# Altium integrated library Linear Technology PMIC-Switching Reg LTC1174-LTC3901.IntLib: 2647 symbols (part 76 of 310)
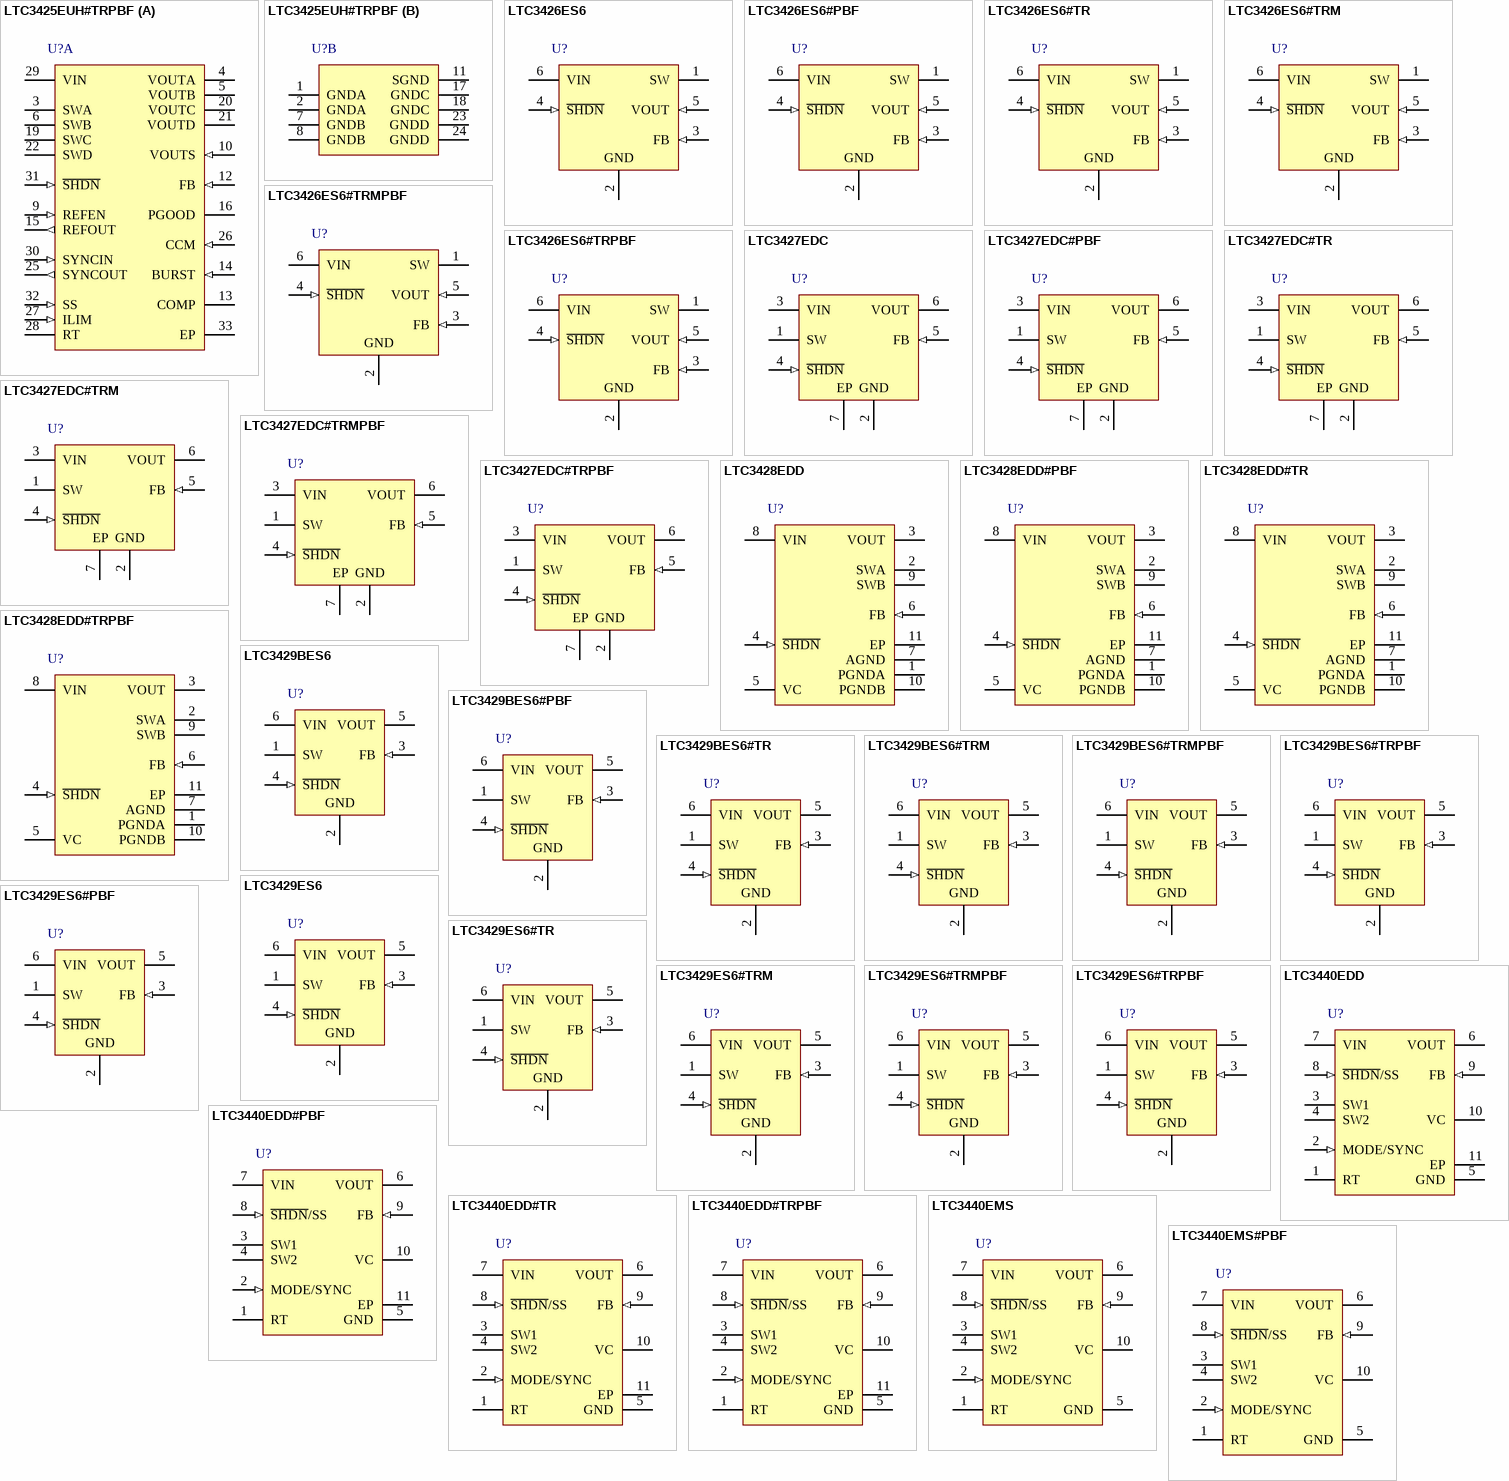
[diagram p159: symbols LTC3425EUH#TRPBF to LTC3440EMS#PBF]

## LTC3440EMS#PBF
designator U?
Micropower Synchronous Buck-Boost DC/DC Converter, 10-pin SOP (MS-10), -40 to 85 degC, Pb-Free; Manufacturer: Linear Technology; PartNumber: LTC3440EMS#PBF; Number of Outputs: 1; PackageReference: MS-10; PackageDescription: 10-Pin Plastic MSOP, Body 3 x 3 mm, Pitch 0.5 mm; Supplier 1: Digi-Key; Supplier Part Number 1: LTC3440EMS#PBF-ND; RoHS: TRUE
footprint LT-MS-10_N (SOP, 10-Leads, Body 3.1x3.1mm, Pitch 0.5mm, IPC Medium Density)
footprint LT-MS-10_L (SOP, 10-Leads, Body 3.1x3.1mm, Pitch 0.5mm, IPC High Density)
footprint LT-MS-10_M (SOP, 10-Leads, Body 3.1x3.1mm, Pitch 0.5mm, IPC Low Density)
pins: 1 RT "Timing Resistor to Program the Oscillator Frequency. The programming frequency range is 300kHz to 2MHz.", 2 MODE/SYNC (in) "MODE/SYNC = External CLK : Synchronization of the internal oscillator. A clock frequency of twice the desired switching frequency and with a pulse width between 100ns and 2us is applied. The oscillator free running frequency (See Datasheet)", 3 SW1 "Switch Pin Where the Internal Switches A and B are Connected. Connect inductor from SW1 to SW2. An optional Schottky diode can be connected from SW1 to ground. Minimize trace length to keep EMI down.", 4 SW2 "Switch Pin Where the Internal Switches C and D are Connected. For applications with output volt-ages over 4.3V, a Schottky diode is required from SW2 to VOUT to ensure the SW pin does not exhibit excess voltage.", 5 GND (power) "Signal and Power Ground for the IC.", 6 VOUT (power) "Output of the Synchronous Rectifier. A filtercapacitor is placed from VOUT to GND.", 7 VIN (power) "Input Supply Pin. Internal VCC for the IC. A ceramic bypass capacitor as close to the VIN pin and GND (Pin 5) is required.", 8 ~{SHDN}/SS (in) "Combined Soft-Start and Shutdown. Grounding this pin shuts down the IC. Tie to >1.5V to enable the IC and > 2.5V to ensure the error amp is not clamped from soft-start. An RC from the shutdown command signal to this pin will (See Datasheet)", 9 FB (in) "Feedback Pin. Connect resistor divider tap here. The output voltage can be adjusted from 2.5V to 5.5V. The feedback reference voltage is typically 1.22V.", 10 VC "Error Amp Output. A frequency compensation network is connected from this pin to the FB pin to compensate the loop. See the section “Compensating the Feedback Loop” for guidelines."

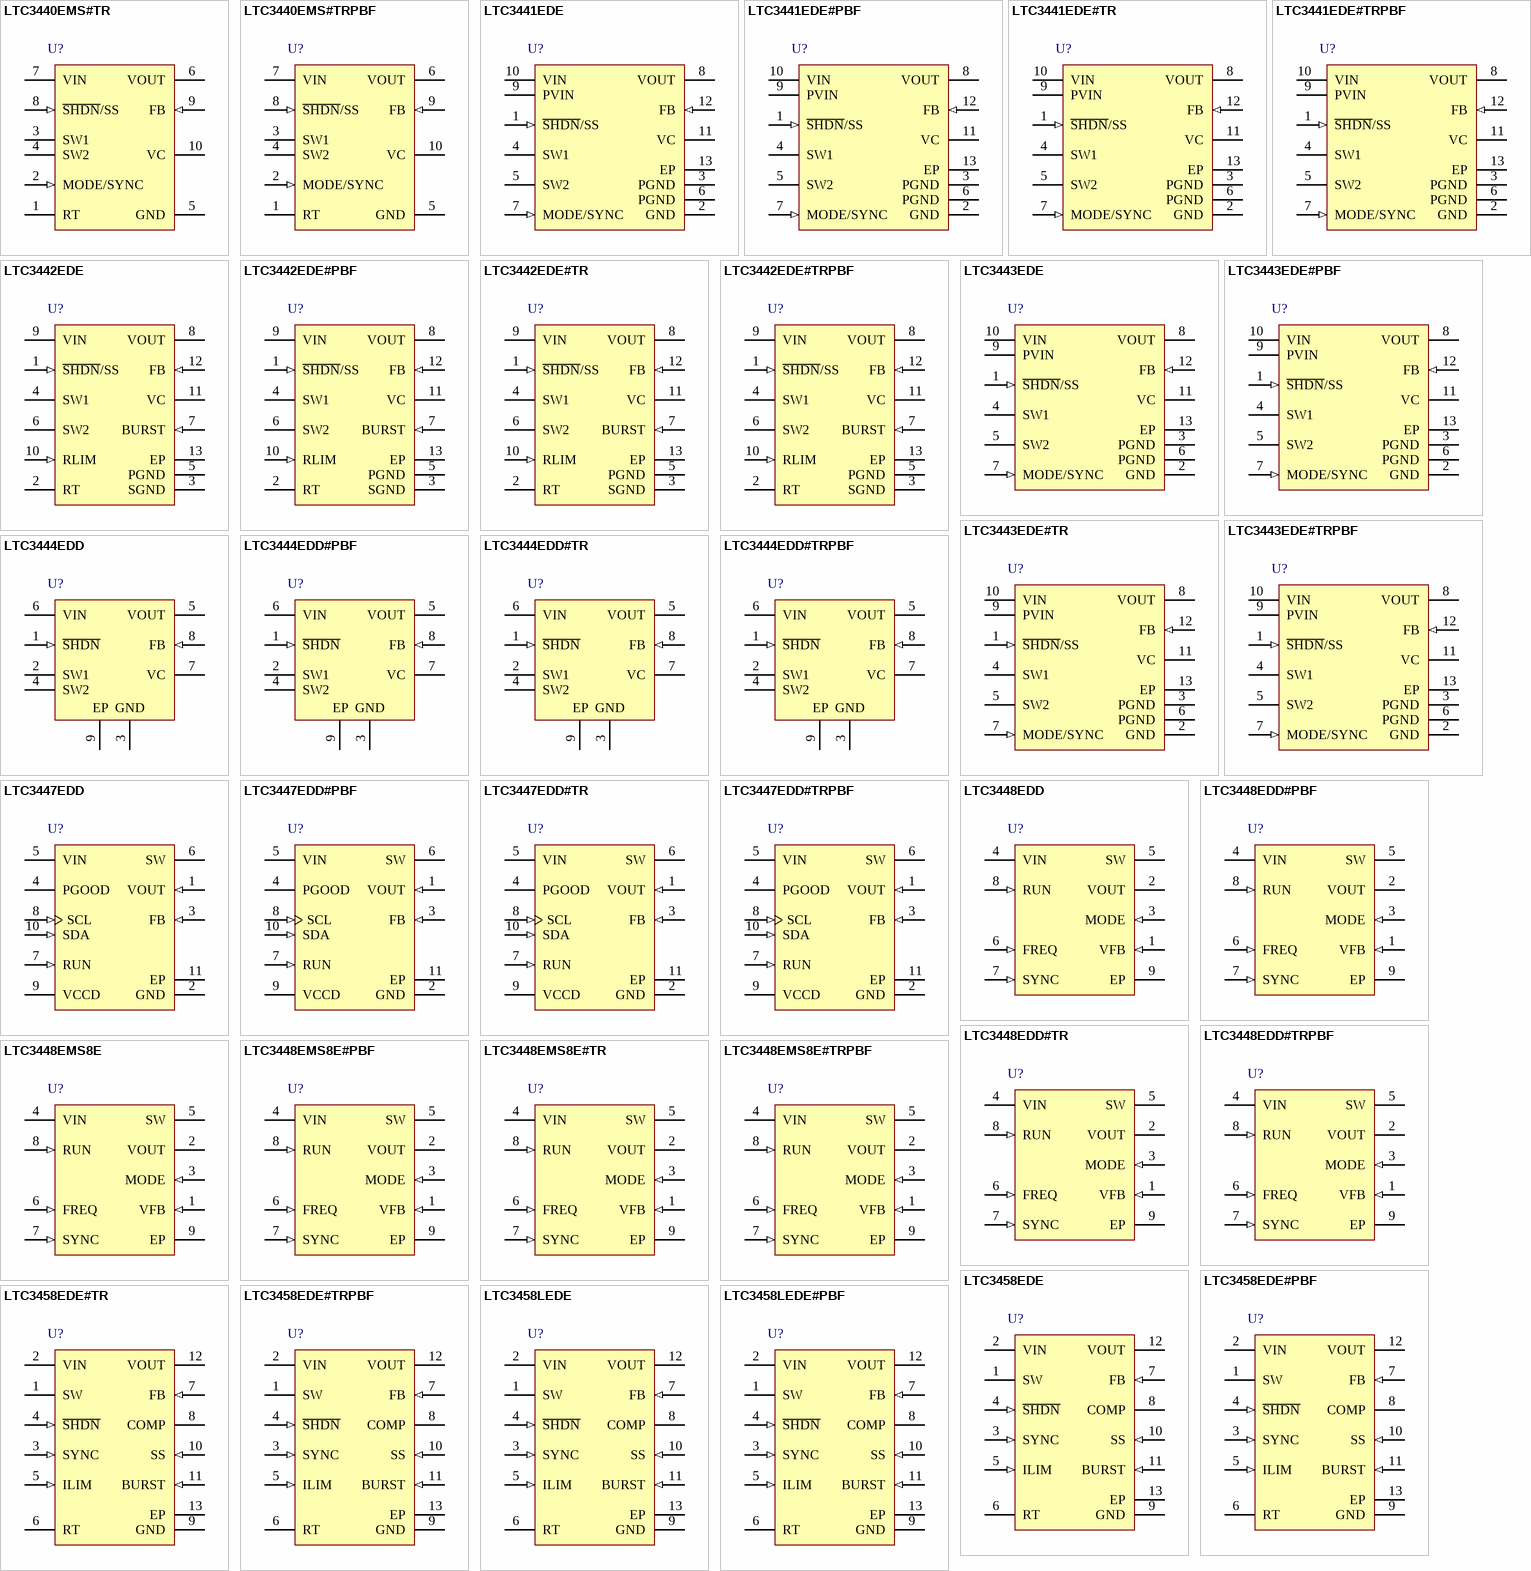
[diagram p27: symbols LTC3440EMS#TR to LTC3458LEDE#PBF]

## LTC3440EMS#TR
designator U?
Micropower Synchronous Buck-Boost DC/DC Converter, 10-pin SOP (MS-10), -40 to 85 degC, Tape and Reel; Manufacturer: Linear Technology; PartNumber: LTC3440EMS#TR; Number of Outputs: 1; PackageReference: MS-10; PackageDescription: 10-Pin Plastic MSOP, Body 3 x 3 mm, Pitch 0.5 mm; Supplier 1: Digi-Key; Supplier Part Number 1: LTC3440EMSTR-ND; RoHS: FALSE
footprint LT-MS-10_N (SOP, 10-Leads, Body 3.1x3.1mm, Pitch 0.5mm, IPC Medium Density)
footprint LT-MS-10_L (SOP, 10-Leads, Body 3.1x3.1mm, Pitch 0.5mm, IPC High Density)
footprint LT-MS-10_M (SOP, 10-Leads, Body 3.1x3.1mm, Pitch 0.5mm, IPC Low Density)
pins: 1 RT "Timing Resistor to Program the Oscillator Frequency. The programming frequency range is 300kHz to 2MHz.", 2 MODE/SYNC (in) "MODE/SYNC = External CLK : Synchronization of the internal oscillator. A clock frequency of twice the desired switching frequency and with a pulse width between 100ns and 2us is applied. The oscillator free running frequency (See Datasheet)", 3 SW1 "Switch Pin Where the Internal Switches A and B are Connected. Connect inductor from SW1 to SW2. An optional Schottky diode can be connected from SW1 to ground. Minimize trace length to keep EMI down.", 4 SW2 "Switch Pin Where the Internal Switches C and D are Connected. For applications with output volt-ages over 4.3V, a Schottky diode is required from SW2 to VOUT to ensure the SW pin does not exhibit excess voltage.", 5 GND (power) "Signal and Power Ground for the IC.", 6 VOUT (power) "Output of the Synchronous Rectifier. A filtercapacitor is placed from VOUT to GND.", 7 VIN (power) "Input Supply Pin. Internal VCC for the IC. A ceramic bypass capacitor as close to the VIN pin and GND (Pin 5) is required.", 8 ~{SHDN}/SS (in) "Combined Soft-Start and Shutdown. Grounding this pin shuts down the IC. Tie to >1.5V to enable the IC and > 2.5V to ensure the error amp is not clamped from soft-start. An RC from the shutdown command signal to this pin will (See Datasheet)", 9 FB (in) "Feedback Pin. Connect resistor divider tap here. The output voltage can be adjusted from 2.5V to 5.5V. The feedback reference voltage is typically 1.22V.", 10 VC "Error Amp Output. A frequency compensation network is connected from this pin to the FB pin to compensate the loop. See the section “Compensating the Feedback Loop” for guidelines."

## LTC3440EMS#TRPBF
designator U?
Micropower Synchronous Buck-Boost DC/DC Converter, 10-pin SOP (MS-10), -40 to 85 degC, Pb-Free, Tape and Reel; Manufacturer: Linear Technology; PartNumber: LTC3440EMS#TRPBF; Number of Outputs: 1; PackageReference: MS-10; PackageDescription: 10-Pin Plastic MSOP, Body 3 x 3 mm, Pitch 0.5 mm; Supplier 1: Digi-Key; Supplier Part Number 1: LTC3440EMS#TRPBF-ND; RoHS: TRUE
footprint LT-MS-10_N (SOP, 10-Leads, Body 3.1x3.1mm, Pitch 0.5mm, IPC Medium Density)
footprint LT-MS-10_L (SOP, 10-Leads, Body 3.1x3.1mm, Pitch 0.5mm, IPC High Density)
footprint LT-MS-10_M (SOP, 10-Leads, Body 3.1x3.1mm, Pitch 0.5mm, IPC Low Density)
pins: 1 RT "Timing Resistor to Program the Oscillator Frequency. The programming frequency range is 300kHz to 2MHz.", 2 MODE/SYNC (in) "MODE/SYNC = External CLK : Synchronization of the internal oscillator. A clock frequency of twice the desired switching frequency and with a pulse width between 100ns and 2us is applied. The oscillator free running frequency (See Datasheet)", 3 SW1 "Switch Pin Where the Internal Switches A and B are Connected. Connect inductor from SW1 to SW2. An optional Schottky diode can be connected from SW1 to ground. Minimize trace length to keep EMI down.", 4 SW2 "Switch Pin Where the Internal Switches C and D are Connected. For applications with output volt-ages over 4.3V, a Schottky diode is required from SW2 to VOUT to ensure the SW pin does not exhibit excess voltage.", 5 GND (power) "Signal and Power Ground for the IC.", 6 VOUT (power) "Output of the Synchronous Rectifier. A filtercapacitor is placed from VOUT to GND.", 7 VIN (power) "Input Supply Pin. Internal VCC for the IC. A ceramic bypass capacitor as close to the VIN pin and GND (Pin 5) is required.", 8 ~{SHDN}/SS (in) "Combined Soft-Start and Shutdown. Grounding this pin shuts down the IC. Tie to >1.5V to enable the IC and > 2.5V to ensure the error amp is not clamped from soft-start. An RC from the shutdown command signal to this pin will (See Datasheet)", 9 FB (in) "Feedback Pin. Connect resistor divider tap here. The output voltage can be adjusted from 2.5V to 5.5V. The feedback reference voltage is typically 1.22V.", 10 VC "Error Amp Output. A frequency compensation network is connected from this pin to the FB pin to compensate the loop. See the section “Compensating the Feedback Loop” for guidelines."

## LTC3441EDE
designator U?
High Current Micropower Synchronous Buck-Boost DC/DC Converter, 12-pin SON (DE-UE-12), -40 to 85 degC; Manufacturer: Linear Technology; PartNumber: LTC3441EDE; Number of Outputs: 1; PackageReference: DE-UE-12; PackageDescription: 12-Pin Plastic DFN, Body 4 x 3 mm, Pitch 0.5 mm; Supplier 1: Digi-Key; Supplier Part Number 1: LTC3441EDE-ND; RoHS: FALSE; Code_JEDEC: MO-229
footprint LT-DE-UE-12_V (SON, 12-Leads, Body 4x3mm, Pitch 0.5mm, Thermal Pad 3.3x1.7mm)
pins: 1 ~{SHDN}/SS (in) "Combined Soft-Start and Shutdown. Applied voltage < 0.4V shuts down the IC. Tie to >1.4V to enable the IC and >2.4V to ensure the error amp is not clamped from soft-start. An RC from the shutdown command signal to this pin (See Datasheet)", 2 GND (power) "Signal Ground for the IC.", 3 PGND (power) "Power Ground for the Internal NMOS Power Switches", 4 SW1 "Switch pin where the internal switches A and B are connected. Connect inductor from SW1 to SW2. An optional Schottky diode can be connected from this SW1 to ground. Minimize trace length to keep EMI down.", 5 SW2 "Switch pin where the internal switches C and D are connected. An optional Schottky diode can be connected from SW2 to VOUT (it is required where VOUT > 4.3V). Minimize trace length to keep EMI down.", 6 PGND (power) "Power Ground for the Internal NMOS Power Switches", 7 MODE/SYNC (in) "Burst Mode Select and Oscillator Synchronization.", 8 VOUT (power) "Output of the Synchronous Rectifier. A filter capacitor is placed from VOUT to GND. A ceramic bypass capacitor is recommended as close to the VOUT and GND pins as possible.", 9 PVIN (power) "Power VIN Supply Pin. A 10uF ceramic capacitor is recommended as close to the PVIN and PGND pins as possible", 10 VIN (power) "Input Supply Pin. Internal VCC for the IC.", 11 VC "Error Amp Output. A frequency compensation network is connected from this pin to the FB pin to compensate the loop. See the section “Compensating the Feedback Loop?for guidelines.", 12 FB (in) "Feedback Pin. Connect resistor divider tap here. The output voltage can be adjusted from 2.4V to 5.25V. The feedback reference voltage is typically 1.22V.", 13 EP (power) "Power Ground for the Internal NMOS Power Switches"

## LTC3441EDE#PBF
designator U?
High Current Micropower Synchronous Buck-Boost DC/DC Converter, 12-pin SON (DE-UE-12), -40 to 85 degC, Pb-Free; Manufacturer: Linear Technology; PartNumber: LTC3441EDE#PBF; Number of Outputs: 1; PackageReference: DE-UE-12; PackageDescription: 12-Pin Plastic DFN, Body 4 x 3 mm, Pitch 0.5 mm; Supplier 1: Digi-Key; Supplier Part Number 1: LTC3441EDE#PBF-ND; RoHS: TRUE; Code_JEDEC: MO-229
footprint LT-DE-UE-12_V (SON, 12-Leads, Body 4x3mm, Pitch 0.5mm, Thermal Pad 3.3x1.7mm)
pins: 1 ~{SHDN}/SS (in) "Combined Soft-Start and Shutdown. Applied voltage < 0.4V shuts down the IC. Tie to >1.4V to enable the IC and >2.4V to ensure the error amp is not clamped from soft-start. An RC from the shutdown command signal to this pin (See Datasheet)", 2 GND (power) "Signal Ground for the IC.", 3 PGND (power) "Power Ground for the Internal NMOS Power Switches", 4 SW1 "Switch pin where the internal switches A and B are connected. Connect inductor from SW1 to SW2. An optional Schottky diode can be connected from this SW1 to ground. Minimize trace length to keep EMI down.", 5 SW2 "Switch pin where the internal switches C and D are connected. An optional Schottky diode can be connected from SW2 to VOUT (it is required where VOUT > 4.3V). Minimize trace length to keep EMI down.", 6 PGND (power) "Power Ground for the Internal NMOS Power Switches", 7 MODE/SYNC (in) "Burst Mode Select and Oscillator Synchronization.", 8 VOUT (power) "Output of the Synchronous Rectifier. A filter capacitor is placed from VOUT to GND. A ceramic bypass capacitor is recommended as close to the VOUT and GND pins as possible.", 9 PVIN (power) "Power VIN Supply Pin. A 10uF ceramic capacitor is recommended as close to the PVIN and PGND pins as possible", 10 VIN (power) "Input Supply Pin. Internal VCC for the IC.", 11 VC "Error Amp Output. A frequency compensation network is connected from this pin to the FB pin to compensate the loop. See the section “Compensating the Feedback Loop?for guidelines.", 12 FB (in) "Feedback Pin. Connect resistor divider tap here. The output voltage can be adjusted from 2.4V to 5.25V. The feedback reference voltage is typically 1.22V.", 13 EP (power) "Power Ground for the Internal NMOS Power Switches"

## LTC3441EDE#TR
designator U?
High Current Micropower Synchronous Buck-Boost DC/DC Converter, 12-pin SON (DE-UE-12), -40 to 85 degC, Tape and Reel; Manufacturer: Linear Technology; PartNumber: LTC3441EDE#TR; Number of Outputs: 1; PackageReference: DE-UE-12; PackageDescription: 12-Pin Plastic DFN, Body 4 x 3 mm, Pitch 0.5 mm; Supplier 1: Digi-Key; Supplier Part Number 1: LTC3441EDE#TR-ND; RoHS: FALSE; Code_JEDEC: MO-229
footprint LT-DE-UE-12_V (SON, 12-Leads, Body 4x3mm, Pitch 0.5mm, Thermal Pad 3.3x1.7mm)
pins: 1 ~{SHDN}/SS (in) "Combined Soft-Start and Shutdown. Applied voltage < 0.4V shuts down the IC. Tie to >1.4V to enable the IC and >2.4V to ensure the error amp is not clamped from soft-start. An RC from the shutdown command signal to this pin (See Datasheet)", 2 GND (power) "Signal Ground for the IC.", 3 PGND (power) "Power Ground for the Internal NMOS Power Switches", 4 SW1 "Switch pin where the internal switches A and B are connected. Connect inductor from SW1 to SW2. An optional Schottky diode can be connected from this SW1 to ground. Minimize trace length to keep EMI down.", 5 SW2 "Switch pin where the internal switches C and D are connected. An optional Schottky diode can be connected from SW2 to VOUT (it is required where VOUT > 4.3V). Minimize trace length to keep EMI down.", 6 PGND (power) "Power Ground for the Internal NMOS Power Switches", 7 MODE/SYNC (in) "Burst Mode Select and Oscillator Synchronization.", 8 VOUT (power) "Output of the Synchronous Rectifier. A filter capacitor is placed from VOUT to GND. A ceramic bypass capacitor is recommended as close to the VOUT and GND pins as possible.", 9 PVIN (power) "Power VIN Supply Pin. A 10uF ceramic capacitor is recommended as close to the PVIN and PGND pins as possible", 10 VIN (power) "Input Supply Pin. Internal VCC for the IC.", 11 VC "Error Amp Output. A frequency compensation network is connected from this pin to the FB pin to compensate the loop. See the section “Compensating the Feedback Loop?for guidelines.", 12 FB (in) "Feedback Pin. Connect resistor divider tap here. The output voltage can be adjusted from 2.4V to 5.25V. The feedback reference voltage is typically 1.22V.", 13 EP (power) "Power Ground for the Internal NMOS Power Switches"

## LTC3441EDE#TRPBF
designator U?
High Current Micropower Synchronous Buck-Boost DC/DC Converter, 12-pin SON (DE-UE-12), -40 to 85 degC, Pb-Free, Tape and Reel; Manufacturer: Linear Technology; PartNumber: LTC3441EDE#TRPBF; Number of Outputs: 1; PackageReference: DE-UE-12; PackageDescription: 12-Pin Plastic DFN, Body 4 x 3 mm, Pitch 0.5 mm; Supplier 1: Digi-Key; Supplier Part Number 1: LTC3441EDE#TRPBF-ND; RoHS: TRUE; Code_JEDEC: MO-229
footprint LT-DE-UE-12_V (SON, 12-Leads, Body 4x3mm, Pitch 0.5mm, Thermal Pad 3.3x1.7mm)
pins: 1 ~{SHDN}/SS (in) "Combined Soft-Start and Shutdown. Applied voltage < 0.4V shuts down the IC. Tie to >1.4V to enable the IC and >2.4V to ensure the error amp is not clamped from soft-start. An RC from the shutdown command signal to this pin (See Datasheet)", 2 GND (power) "Signal Ground for the IC.", 3 PGND (power) "Power Ground for the Internal NMOS Power Switches", 4 SW1 "Switch pin where the internal switches A and B are connected. Connect inductor from SW1 to SW2. An optional Schottky diode can be connected from this SW1 to ground. Minimize trace length to keep EMI down.", 5 SW2 "Switch pin where the internal switches C and D are connected. An optional Schottky diode can be connected from SW2 to VOUT (it is required where VOUT > 4.3V). Minimize trace length to keep EMI down.", 6 PGND (power) "Power Ground for the Internal NMOS Power Switches", 7 MODE/SYNC (in) "Burst Mode Select and Oscillator Synchronization.", 8 VOUT (power) "Output of the Synchronous Rectifier. A filter capacitor is placed from VOUT to GND. A ceramic bypass capacitor is recommended as close to the VOUT and GND pins as possible.", 9 PVIN (power) "Power VIN Supply Pin. A 10uF ceramic capacitor is recommended as close to the PVIN and PGND pins as possible", 10 VIN (power) "Input Supply Pin. Internal VCC for the IC.", 11 VC "Error Amp Output. A frequency compensation network is connected from this pin to the FB pin to compensate the loop. See the section “Compensating the Feedback Loop?for guidelines.", 12 FB (in) "Feedback Pin. Connect resistor divider tap here. The output voltage can be adjusted from 2.4V to 5.25V. The feedback reference voltage is typically 1.22V.", 13 EP (power) "Power Ground for the Internal NMOS Power Switches"

## LTC3442EDE
designator U?
Micropower Synchronous Buck-Boost DC/DC Converter with Automatic Burst Mode Operation, 12-pin SON (DE-UE-12), -40 to 85 degC; Manufacturer: Linear Technology; PartNumber: LTC3442EDE; Number of Outputs: 1; PackageReference: DE-UE-12; PackageDescription: 12-Pin Plastic DFN, Body 4 x 3 mm, Pitch 0.5 mm; RoHS: FALSE; Code_JEDEC: MO-229
footprint LT-DE-UE-12_V (SON, 12-Leads, Body 4x3mm, Pitch 0.5mm, Thermal Pad 3.3x1.7mm)
pins: 1 ~{SHDN}/SS (in) "Combined Soft-Start and Shutdown. Applied voltage < 0.4V shuts down the IC. Tie to >1.4V to enable the IC and >2.4V to ensure the error amp is not clamped from soft-start. An RC from the shutdown command signal to this pin (See Datasheet)", 2 RT "Programs the Frequency of the Internal Oscillator. Place a resistor from this pin to ground. See the Applications Information section for component value selection.", 3 SGND (power) "Signal Ground for the IC.", 4 SW1 "Switch Pin Where Internal Switches A and B Are Connected. Connect inductor from SW1 to SW2. An optional Schottky diode can be connected from SW1 to ground for a moderate efficiency improvement. Minimize trace length to (See Datasheet)", 5 PGND (power) "Power Ground for the Internal NMOS Power Switches. The exposed pad must be soldered to PCB ground to provide both electrical contact and a good thermal contact to the PCB.", 6 SW2 "Switch Pin Where Internal Switches C and D Are Connected. An optional Schottky diode can be connected from SW2 to VOUT for a moderate efficiency improvement. Minimize trace length to reduce EMI.", 7 BURST (in) "Used to Set the Automatic Burst Mode Operation Threshold. Place a resistor and capacitor in parallel from this pin to ground. See the Applications Information section for component value selection. For manual control, ground (See Datasheet)", 8 VOUT (power) "Output of the Synchronous Rectifier. A filter capacitor is placed from VOUT to GND. A ceramic bypass capacitor is recommended as close to the VOUT and GND pins as possible.", 9 VIN (power) "Input Supply Pin. Internal VCC for the IC. A 10uF ceramic capacitor is recommended as close to VIN and SGND as possible.", 10 RLIM (in) "Sets the Average Input Current Limit Threshold. Place a resistor and capacitor in parallel from this pin to ground. See the Applications Information section for component value selection.", 11 VC "Error Amp Output. A frequency compensation network is connected from this pin to FB to compensate the loop. During Burst Mode operation, VC is internally connected to a hold circuit.", 12 FB (in) "Feedback Pin. Connect resistor divider tap here. The output voltage can be adjusted from 2.4V to 5.25V. The feedback reference voltage is typically 1.22V.", 13 EP (power) "Power Ground for the Internal NMOS Power Switches. The exposed pad must be soldered to PCB ground to provide both electrical contact and a good thermal contact to the PCB."

## LTC3442EDE#PBF
designator U?
Micropower Synchronous Buck-Boost DC/DC Converter with Automatic Burst Mode Operation, 12-pin SON (DE-UE-12), -40 to 85 degC, Pb-Free; Manufacturer: Linear Technology; PartNumber: LTC3442EDE#PBF; Number of Outputs: 1; PackageReference: DE-UE-12; PackageDescription: 12-Pin Plastic DFN, Body 4 x 3 mm, Pitch 0.5 mm; Supplier 1: Digi-Key; Supplier Part Number 1: LTC3442EDE#PBF-ND; RoHS: TRUE; Code_JEDEC: MO-229
footprint LT-DE-UE-12_V (SON, 12-Leads, Body 4x3mm, Pitch 0.5mm, Thermal Pad 3.3x1.7mm)
pins: 1 ~{SHDN}/SS (in) "Combined Soft-Start and Shutdown. Applied voltage < 0.4V shuts down the IC. Tie to >1.4V to enable the IC and >2.4V to ensure the error amp is not clamped from soft-start. An RC from the shutdown command signal to this pin (See Datasheet)", 2 RT "Programs the Frequency of the Internal Oscillator. Place a resistor from this pin to ground. See the Applications Information section for component value selection.", 3 SGND (power) "Signal Ground for the IC.", 4 SW1 "Switch Pin Where Internal Switches A and B Are Connected. Connect inductor from SW1 to SW2. An optional Schottky diode can be connected from SW1 to ground for a moderate efficiency improvement. Minimize trace length to (See Datasheet)", 5 PGND (power) "Power Ground for the Internal NMOS Power Switches. The exposed pad must be soldered to PCB ground to provide both electrical contact and a good thermal contact to the PCB.", 6 SW2 "Switch Pin Where Internal Switches C and D Are Connected. An optional Schottky diode can be connected from SW2 to VOUT for a moderate efficiency improvement. Minimize trace length to reduce EMI.", 7 BURST (in) "Used to Set the Automatic Burst Mode Operation Threshold. Place a resistor and capacitor in parallel from this pin to ground. See the Applications Information section for component value selection. For manual control, ground (See Datasheet)", 8 VOUT (power) "Output of the Synchronous Rectifier. A filter capacitor is placed from VOUT to GND. A ceramic bypass capacitor is recommended as close to the VOUT and GND pins as possible.", 9 VIN (power) "Input Supply Pin. Internal VCC for the IC. A 10uF ceramic capacitor is recommended as close to VIN and SGND as possible.", 10 RLIM (in) "Sets the Average Input Current Limit Threshold. Place a resistor and capacitor in parallel from this pin to ground. See the Applications Information section for component value selection.", 11 VC "Error Amp Output. A frequency compensation network is connected from this pin to FB to compensate the loop. During Burst Mode operation, VC is internally connected to a hold circuit.", 12 FB (in) "Feedback Pin. Connect resistor divider tap here. The output voltage can be adjusted from 2.4V to 5.25V. The feedback reference voltage is typically 1.22V.", 13 EP (power) "Power Ground for the Internal NMOS Power Switches. The exposed pad must be soldered to PCB ground to provide both electrical contact and a good thermal contact to the PCB."

## LTC3442EDE#TR
designator U?
Micropower Synchronous Buck-Boost DC/DC Converter with Automatic Burst Mode Operation, 12-pin SON (DE-UE-12), -40 to 85 degC, Tape and Reel; Manufacturer: Linear Technology; PartNumber: LTC3442EDE#TR; Number of Outputs: 1; PackageReference: DE-UE-12; PackageDescription: 12-Pin Plastic DFN, Body 4 x 3 mm, Pitch 0.5 mm; RoHS: FALSE; Code_JEDEC: MO-229
footprint LT-DE-UE-12_V (SON, 12-Leads, Body 4x3mm, Pitch 0.5mm, Thermal Pad 3.3x1.7mm)
pins: 1 ~{SHDN}/SS (in) "Combined Soft-Start and Shutdown. Applied voltage < 0.4V shuts down the IC. Tie to >1.4V to enable the IC and >2.4V to ensure the error amp is not clamped from soft-start. An RC from the shutdown command signal to this pin (See Datasheet)", 2 RT "Programs the Frequency of the Internal Oscillator. Place a resistor from this pin to ground. See the Applications Information section for component value selection.", 3 SGND (power) "Signal Ground for the IC.", 4 SW1 "Switch Pin Where Internal Switches A and B Are Connected. Connect inductor from SW1 to SW2. An optional Schottky diode can be connected from SW1 to ground for a moderate efficiency improvement. Minimize trace length to (See Datasheet)", 5 PGND (power) "Power Ground for the Internal NMOS Power Switches. The exposed pad must be soldered to PCB ground to provide both electrical contact and a good thermal contact to the PCB.", 6 SW2 "Switch Pin Where Internal Switches C and D Are Connected. An optional Schottky diode can be connected from SW2 to VOUT for a moderate efficiency improvement. Minimize trace length to reduce EMI.", 7 BURST (in) "Used to Set the Automatic Burst Mode Operation Threshold. Place a resistor and capacitor in parallel from this pin to ground. See the Applications Information section for component value selection. For manual control, ground (See Datasheet)", 8 VOUT (power) "Output of the Synchronous Rectifier. A filter capacitor is placed from VOUT to GND. A ceramic bypass capacitor is recommended as close to the VOUT and GND pins as possible.", 9 VIN (power) "Input Supply Pin. Internal VCC for the IC. A 10uF ceramic capacitor is recommended as close to VIN and SGND as possible.", 10 RLIM (in) "Sets the Average Input Current Limit Threshold. Place a resistor and capacitor in parallel from this pin to ground. See the Applications Information section for component value selection.", 11 VC "Error Amp Output. A frequency compensation network is connected from this pin to FB to compensate the loop. During Burst Mode operation, VC is internally connected to a hold circuit.", 12 FB (in) "Feedback Pin. Connect resistor divider tap here. The output voltage can be adjusted from 2.4V to 5.25V. The feedback reference voltage is typically 1.22V.", 13 EP (power) "Power Ground for the Internal NMOS Power Switches. The exposed pad must be soldered to PCB ground to provide both electrical contact and a good thermal contact to the PCB."

## LTC3442EDE#TRPBF
designator U?
Micropower Synchronous Buck-Boost DC/DC Converter with Automatic Burst Mode Operation, 12-pin SON (DE-UE-12), -40 to 85 degC, Pb-Free, Tape and Reel; Manufacturer: Linear Technology; PartNumber: LTC3442EDE#TRPBF; Number of Outputs: 1; PackageReference: DE-UE-12; PackageDescription: 12-Pin Plastic DFN, Body 4 x 3 mm, Pitch 0.5 mm; Supplier 1: Digi-Key; Supplier Part Number 1: LTC3442EDE#TRPBF-ND; RoHS: TRUE; Code_JEDEC: MO-229
footprint LT-DE-UE-12_V (SON, 12-Leads, Body 4x3mm, Pitch 0.5mm, Thermal Pad 3.3x1.7mm)
pins: 1 ~{SHDN}/SS (in) "Combined Soft-Start and Shutdown. Applied voltage < 0.4V shuts down the IC. Tie to >1.4V to enable the IC and >2.4V to ensure the error amp is not clamped from soft-start. An RC from the shutdown command signal to this pin (See Datasheet)", 2 RT "Programs the Frequency of the Internal Oscillator. Place a resistor from this pin to ground. See the Applications Information section for component value selection.", 3 SGND (power) "Signal Ground for the IC.", 4 SW1 "Switch Pin Where Internal Switches A and B Are Connected. Connect inductor from SW1 to SW2. An optional Schottky diode can be connected from SW1 to ground for a moderate efficiency improvement. Minimize trace length to (See Datasheet)", 5 PGND (power) "Power Ground for the Internal NMOS Power Switches. The exposed pad must be soldered to PCB ground to provide both electrical contact and a good thermal contact to the PCB.", 6 SW2 "Switch Pin Where Internal Switches C and D Are Connected. An optional Schottky diode can be connected from SW2 to VOUT for a moderate efficiency improvement. Minimize trace length to reduce EMI.", 7 BURST (in) "Used to Set the Automatic Burst Mode Operation Threshold. Place a resistor and capacitor in parallel from this pin to ground. See the Applications Information section for component value selection. For manual control, ground (See Datasheet)", 8 VOUT (power) "Output of the Synchronous Rectifier. A filter capacitor is placed from VOUT to GND. A ceramic bypass capacitor is recommended as close to the VOUT and GND pins as possible.", 9 VIN (power) "Input Supply Pin. Internal VCC for the IC. A 10uF ceramic capacitor is recommended as close to VIN and SGND as possible.", 10 RLIM (in) "Sets the Average Input Current Limit Threshold. Place a resistor and capacitor in parallel from this pin to ground. See the Applications Information section for component value selection.", 11 VC "Error Amp Output. A frequency compensation network is connected from this pin to FB to compensate the loop. During Burst Mode operation, VC is internally connected to a hold circuit.", 12 FB (in) "Feedback Pin. Connect resistor divider tap here. The output voltage can be adjusted from 2.4V to 5.25V. The feedback reference voltage is typically 1.22V.", 13 EP (power) "Power Ground for the Internal NMOS Power Switches. The exposed pad must be soldered to PCB ground to provide both electrical contact and a good thermal contact to the PCB."

## LTC3443EDE
designator U?
High Current Micropower 600 kHz Synchronous Buck-Boost DC/DC Converter, 12-pin SON (DE-UE-12), -40 to 85 degC; Manufacturer: Linear Technology; PartNumber: LTC3443EDE; Number of Outputs: 1; PackageReference: DE-UE-12; PackageDescription: 12-Pin Plastic DFN, Body 4 x 3 mm, Pitch 0.5 mm; Supplier 1: Digi-Key; Supplier Part Number 1: LTC3443EDE-ND; RoHS: FALSE; Code_JEDEC: MO-229
footprint LT-DE-UE-12_V (SON, 12-Leads, Body 4x3mm, Pitch 0.5mm, Thermal Pad 3.3x1.7mm)
pins: 1 ~{SHDN}/SS (in) "Combined Soft-Start and Shutdown. Applied voltage < 0.4V shuts down the IC. Tie to >1.4V to enable the IC and >2.4V to ensure the error amp is not clamped from soft-start. An RC from the shutdown command signal to this pin (See Datasheet)", 2 GND (power) "Signal Ground for the IC.", 3 PGND (power) "Power Ground for the Internal NMOS Power Switches", 4 SW1 "Switch pin where the internal switches A and B are connected. Connect inductor from SW1 to SW2. An optional Schottky diode can be connected from this SW1 to ground. Minimize trace length to keep EMI down.", 5 SW2 "Switch pin where the internal switches C and D are connected. An optional Schottky diode can be connected from SW2 to VOUT (it is required where VOUT > 4.3V). Minimize trace length to keep EMI down.", 6 PGND (power) "Power Ground for the Internal NMOS Power Switches", 7 MODE/SYNC (in) "Burst Mode Select and Oscillator Synchronization.", 8 VOUT (power) "Output of the Synchronous Rectifier. A filter capacitor is placed from VOUT to GND. A ceramic bypass capacitor is recommended as close to the VOUT and GND pins as possible.", 9 PVIN (power) "Power VIN Supply Pin. A 10uF ceramic capacitor is recommended as close to the PVIN and PGND pins as possible", 10 VIN (power) "Input Supply Pin. Internal VCC for the IC.", 11 VC "Error Amp Output. A frequency compensation network is connected from this pin to the FB pin to compensate the loop. See the section “Compensating the Feedback Loop?for guidelines.", 12 FB (in) "Feedback Pin. Connect resistor divider tap here. The output voltage can be adjusted from 2.4V to 5.25V. The feedback reference voltage is typically 1.22V.", 13 EP (power) "Power Ground for the Internal NMOS Power Switches"

## LTC3443EDE#PBF
designator U?
High Current Micropower 600 kHz Synchronous Buck-Boost DC/DC Converter, 12-pin SON (DE-UE-12), -40 to 85 degC, Pb-Free; Manufacturer: Linear Technology; PartNumber: LTC3443EDE#PBF; Number of Outputs: 1; PackageReference: DE-UE-12; PackageDescription: 12-Pin Plastic DFN, Body 4 x 3 mm, Pitch 0.5 mm; Supplier 1: Digi-Key; Supplier Part Number 1: LTC3443EDE#PBF-ND; RoHS: TRUE; Code_JEDEC: MO-229
footprint LT-DE-UE-12_V (SON, 12-Leads, Body 4x3mm, Pitch 0.5mm, Thermal Pad 3.3x1.7mm)
pins: 1 ~{SHDN}/SS (in) "Combined Soft-Start and Shutdown. Applied voltage < 0.4V shuts down the IC. Tie to >1.4V to enable the IC and >2.4V to ensure the error amp is not clamped from soft-start. An RC from the shutdown command signal to this pin (See Datasheet)", 2 GND (power) "Signal Ground for the IC.", 3 PGND (power) "Power Ground for the Internal NMOS Power Switches", 4 SW1 "Switch pin where the internal switches A and B are connected. Connect inductor from SW1 to SW2. An optional Schottky diode can be connected from this SW1 to ground. Minimize trace length to keep EMI down.", 5 SW2 "Switch pin where the internal switches C and D are connected. An optional Schottky diode can be connected from SW2 to VOUT (it is required where VOUT > 4.3V). Minimize trace length to keep EMI down.", 6 PGND (power) "Power Ground for the Internal NMOS Power Switches", 7 MODE/SYNC (in) "Burst Mode Select and Oscillator Synchronization.", 8 VOUT (power) "Output of the Synchronous Rectifier. A filter capacitor is placed from VOUT to GND. A ceramic bypass capacitor is recommended as close to the VOUT and GND pins as possible.", 9 PVIN (power) "Power VIN Supply Pin. A 10uF ceramic capacitor is recommended as close to the PVIN and PGND pins as possible", 10 VIN (power) "Input Supply Pin. Internal VCC for the IC.", 11 VC "Error Amp Output. A frequency compensation network is connected from this pin to the FB pin to compensate the loop. See the section “Compensating the Feedback Loop?for guidelines.", 12 FB (in) "Feedback Pin. Connect resistor divider tap here. The output voltage can be adjusted from 2.4V to 5.25V. The feedback reference voltage is typically 1.22V.", 13 EP (power) "Power Ground for the Internal NMOS Power Switches"

## LTC3443EDE#TR
designator U?
High Current Micropower 600 kHz Synchronous Buck-Boost DC/DC Converter, 12-pin SON (DE-UE-12), -40 to 85 degC, Tape and Reel; Manufacturer: Linear Technology; PartNumber: LTC3443EDE#TR; Number of Outputs: 1; PackageReference: DE-UE-12; PackageDescription: 12-Pin Plastic DFN, Body 4 x 3 mm, Pitch 0.5 mm; Supplier 1: Digi-Key; Supplier Part Number 1: LTC3443EDE#TR-ND; RoHS: FALSE; Code_JEDEC: MO-229
footprint LT-DE-UE-12_V (SON, 12-Leads, Body 4x3mm, Pitch 0.5mm, Thermal Pad 3.3x1.7mm)
pins: 1 ~{SHDN}/SS (in) "Combined Soft-Start and Shutdown. Applied voltage < 0.4V shuts down the IC. Tie to >1.4V to enable the IC and >2.4V to ensure the error amp is not clamped from soft-start. An RC from the shutdown command signal to this pin (See Datasheet)", 2 GND (power) "Signal Ground for the IC.", 3 PGND (power) "Power Ground for the Internal NMOS Power Switches", 4 SW1 "Switch pin where the internal switches A and B are connected. Connect inductor from SW1 to SW2. An optional Schottky diode can be connected from this SW1 to ground. Minimize trace length to keep EMI down.", 5 SW2 "Switch pin where the internal switches C and D are connected. An optional Schottky diode can be connected from SW2 to VOUT (it is required where VOUT > 4.3V). Minimize trace length to keep EMI down.", 6 PGND (power) "Power Ground for the Internal NMOS Power Switches", 7 MODE/SYNC (in) "Burst Mode Select and Oscillator Synchronization.", 8 VOUT (power) "Output of the Synchronous Rectifier. A filter capacitor is placed from VOUT to GND. A ceramic bypass capacitor is recommended as close to the VOUT and GND pins as possible.", 9 PVIN (power) "Power VIN Supply Pin. A 10uF ceramic capacitor is recommended as close to the PVIN and PGND pins as possible", 10 VIN (power) "Input Supply Pin. Internal VCC for the IC.", 11 VC "Error Amp Output. A frequency compensation network is connected from this pin to the FB pin to compensate the loop. See the section “Compensating the Feedback Loop?for guidelines.", 12 FB (in) "Feedback Pin. Connect resistor divider tap here. The output voltage can be adjusted from 2.4V to 5.25V. The feedback reference voltage is typically 1.22V.", 13 EP (power) "Power Ground for the Internal NMOS Power Switches"

## LTC3443EDE#TRPBF
designator U?
High Current Micropower 600 kHz Synchronous Buck-Boost DC/DC Converter, 12-pin SON (DE-UE-12), -40 to 85 degC, Pb-Free, Tape and Reel; Manufacturer: Linear Technology; PartNumber: LTC3443EDE#TRPBF; Number of Outputs: 1; PackageReference: DE-UE-12; PackageDescription: 12-Pin Plastic DFN, Body 4 x 3 mm, Pitch 0.5 mm; Supplier 1: Digi-Key; Supplier Part Number 1: LTC3443EDE#TRPBF-ND; RoHS: TRUE; Code_JEDEC: MO-229
footprint LT-DE-UE-12_V (SON, 12-Leads, Body 4x3mm, Pitch 0.5mm, Thermal Pad 3.3x1.7mm)
pins: 1 ~{SHDN}/SS (in) "Combined Soft-Start and Shutdown. Applied voltage < 0.4V shuts down the IC. Tie to >1.4V to enable the IC and >2.4V to ensure the error amp is not clamped from soft-start. An RC from the shutdown command signal to this pin (See Datasheet)", 2 GND (power) "Signal Ground for the IC.", 3 PGND (power) "Power Ground for the Internal NMOS Power Switches", 4 SW1 "Switch pin where the internal switches A and B are connected. Connect inductor from SW1 to SW2. An optional Schottky diode can be connected from this SW1 to ground. Minimize trace length to keep EMI down.", 5 SW2 "Switch pin where the internal switches C and D are connected. An optional Schottky diode can be connected from SW2 to VOUT (it is required where VOUT > 4.3V). Minimize trace length to keep EMI down.", 6 PGND (power) "Power Ground for the Internal NMOS Power Switches", 7 MODE/SYNC (in) "Burst Mode Select and Oscillator Synchronization.", 8 VOUT (power) "Output of the Synchronous Rectifier. A filter capacitor is placed from VOUT to GND. A ceramic bypass capacitor is recommended as close to the VOUT and GND pins as possible.", 9 PVIN (power) "Power VIN Supply Pin. A 10uF ceramic capacitor is recommended as close to the PVIN and PGND pins as possible", 10 VIN (power) "Input Supply Pin. Internal VCC for the IC.", 11 VC "Error Amp Output. A frequency compensation network is connected from this pin to the FB pin to compensate the loop. See the section “Compensating the Feedback Loop?for guidelines.", 12 FB (in) "Feedback Pin. Connect resistor divider tap here. The output voltage can be adjusted from 2.4V to 5.25V. The feedback reference voltage is typically 1.22V.", 13 EP (power) "Power Ground for the Internal NMOS Power Switches"

## LTC3444EDD
designator U?
Micropower Synchronous Buck-Boost DC/DC Converter for WCDMA Application, 8-pin SON (DD-8), -40 to 85 degC; Manufacturer: Linear Technology; PartNumber: LTC3444EDD; Number of Outputs: 1; PackageReference: DD-8; PackageDescription: 8-Pin Plastic DFN, Body 3 x 3 mm, Pitch 0.5 mm; RoHS: FALSE; Code_JEDEC: MO-229
footprint LT-DD-8_V (SON, 8-Leads, Body 3x3mm, Pitch 0.5mm, Thermal Pad 1.65x2.38 mm)
pins: 1 ~{SHDN} (in) "Shutdown Function. A logic low input shuts down the IC. A logic high input enables the IC and starts the internal soft-start function by limiting the rise time of the internal PWM command.", 2 SW1 "Switch Pin Where the Internal Switches A and B are Connected. Connect inductor from SW1 to SW2. An optional Schottky diode can be connected from ground to SW1 for a moderate efficiency improvement. Minimize trace length to (See Datasheet)", 3 GND (power) "Ground Pin for the IC.", 4 SW2 "Switch Pin Where the Internal Switches C and D are Connected. An optional Schottky diode can be connected from SW2 to VOUT for a moderate efficiency improvement. Minimize trace length to keep EMI down.", 5 VOUT (power) "Output of the Synchronous Rectifier. A filter capacitor is placed from VOUT to GND. A ceramic bypass capacitor is recommended as close to the VOUT and GND pins as possible.", 6 VIN (power) "Input Supply Pin. Internal VCC for the IC. A 4.7uF ceramic capacitor is recommended as close to VIN and GND as possible.", 7 VC "Error Amp Output. Pull VC to ground to select internal loop compensation. External compensation may be connected from VC to FB. Internal compensation will be disabled if VC is tied to an external compensation network.", 8 FB (in) "Feedback Pin. Connect resistive divider tap here. The output voltage can be adjusted from 0.5V to 5V. The feedback reference voltage is typically 1.22V.", 9 EP (power) "Solder to Board GND."

## LTC3444EDD#PBF
designator U?
Micropower Synchronous Buck-Boost DC/DC Converter for WCDMA Application, 8-pin SON (DD-8), -40 to 85 degC, Pb-Free; Manufacturer: Linear Technology; PartNumber: LTC3444EDD#PBF; Number of Outputs: 1; PackageReference: DD-8; PackageDescription: 8-Pin Plastic DFN, Body 3 x 3 mm, Pitch 0.5 mm; Supplier 1: Digi-Key; Supplier Part Number 1: LTC3444EDD#PBF-ND; RoHS: TRUE; Code_JEDEC: MO-229
footprint LT-DD-8_V (SON, 8-Leads, Body 3x3mm, Pitch 0.5mm, Thermal Pad 1.65x2.38 mm)
pins: 1 ~{SHDN} (in) "Shutdown Function. A logic low input shuts down the IC. A logic high input enables the IC and starts the internal soft-start function by limiting the rise time of the internal PWM command.", 2 SW1 "Switch Pin Where the Internal Switches A and B are Connected. Connect inductor from SW1 to SW2. An optional Schottky diode can be connected from ground to SW1 for a moderate efficiency improvement. Minimize trace length to (See Datasheet)", 3 GND (power) "Ground Pin for the IC.", 4 SW2 "Switch Pin Where the Internal Switches C and D are Connected. An optional Schottky diode can be connected from SW2 to VOUT for a moderate efficiency improvement. Minimize trace length to keep EMI down.", 5 VOUT (power) "Output of the Synchronous Rectifier. A filter capacitor is placed from VOUT to GND. A ceramic bypass capacitor is recommended as close to the VOUT and GND pins as possible.", 6 VIN (power) "Input Supply Pin. Internal VCC for the IC. A 4.7uF ceramic capacitor is recommended as close to VIN and GND as possible.", 7 VC "Error Amp Output. Pull VC to ground to select internal loop compensation. External compensation may be connected from VC to FB. Internal compensation will be disabled if VC is tied to an external compensation network.", 8 FB (in) "Feedback Pin. Connect resistive divider tap here. The output voltage can be adjusted from 0.5V to 5V. The feedback reference voltage is typically 1.22V.", 9 EP (power) "Solder to Board GND."

## LTC3444EDD#TR
designator U?
Micropower Synchronous Buck-Boost DC/DC Converter for WCDMA Application, 8-pin SON (DD-8), -40 to 85 degC, Tape and Reel; Manufacturer: Linear Technology; PartNumber: LTC3444EDD#TR; Number of Outputs: 1; PackageReference: DD-8; PackageDescription: 8-Pin Plastic DFN, Body 3 x 3 mm, Pitch 0.5 mm; RoHS: FALSE; Code_JEDEC: MO-229
footprint LT-DD-8_V (SON, 8-Leads, Body 3x3mm, Pitch 0.5mm, Thermal Pad 1.65x2.38 mm)
pins: 1 ~{SHDN} (in) "Shutdown Function. A logic low input shuts down the IC. A logic high input enables the IC and starts the internal soft-start function by limiting the rise time of the internal PWM command.", 2 SW1 "Switch Pin Where the Internal Switches A and B are Connected. Connect inductor from SW1 to SW2. An optional Schottky diode can be connected from ground to SW1 for a moderate efficiency improvement. Minimize trace length to (See Datasheet)", 3 GND (power) "Ground Pin for the IC.", 4 SW2 "Switch Pin Where the Internal Switches C and D are Connected. An optional Schottky diode can be connected from SW2 to VOUT for a moderate efficiency improvement. Minimize trace length to keep EMI down.", 5 VOUT (power) "Output of the Synchronous Rectifier. A filter capacitor is placed from VOUT to GND. A ceramic bypass capacitor is recommended as close to the VOUT and GND pins as possible.", 6 VIN (power) "Input Supply Pin. Internal VCC for the IC. A 4.7uF ceramic capacitor is recommended as close to VIN and GND as possible.", 7 VC "Error Amp Output. Pull VC to ground to select internal loop compensation. External compensation may be connected from VC to FB. Internal compensation will be disabled if VC is tied to an external compensation network.", 8 FB (in) "Feedback Pin. Connect resistive divider tap here. The output voltage can be adjusted from 0.5V to 5V. The feedback reference voltage is typically 1.22V.", 9 EP (power) "Solder to Board GND."

## LTC3444EDD#TRPBF
designator U?
Micropower Synchronous Buck-Boost DC/DC Converter for WCDMA Application, 8-pin SON (DD-8), -40 to 85 degC, Pb-Free, Tape and Reel; Manufacturer: Linear Technology; PartNumber: LTC3444EDD#TRPBF; Number of Outputs: 1; PackageReference: DD-8; PackageDescription: 8-Pin Plastic DFN, Body 3 x 3 mm, Pitch 0.5 mm; Supplier 1: Digi-Key; Supplier Part Number 1: LTC3444EDD#TRPBF-ND; RoHS: TRUE; Code_JEDEC: MO-229
footprint LT-DD-8_V (SON, 8-Leads, Body 3x3mm, Pitch 0.5mm, Thermal Pad 1.65x2.38 mm)
pins: 1 ~{SHDN} (in) "Shutdown Function. A logic low input shuts down the IC. A logic high input enables the IC and starts the internal soft-start function by limiting the rise time of the internal PWM command.", 2 SW1 "Switch Pin Where the Internal Switches A and B are Connected. Connect inductor from SW1 to SW2. An optional Schottky diode can be connected from ground to SW1 for a moderate efficiency improvement. Minimize trace length to (See Datasheet)", 3 GND (power) "Ground Pin for the IC.", 4 SW2 "Switch Pin Where the Internal Switches C and D are Connected. An optional Schottky diode can be connected from SW2 to VOUT for a moderate efficiency improvement. Minimize trace length to keep EMI down.", 5 VOUT (power) "Output of the Synchronous Rectifier. A filter capacitor is placed from VOUT to GND. A ceramic bypass capacitor is recommended as close to the VOUT and GND pins as possible.", 6 VIN (power) "Input Supply Pin. Internal VCC for the IC. A 4.7uF ceramic capacitor is recommended as close to VIN and GND as possible.", 7 VC "Error Amp Output. Pull VC to ground to select internal loop compensation. External compensation may be connected from VC to FB. Internal compensation will be disabled if VC is tied to an external compensation network.", 8 FB (in) "Feedback Pin. Connect resistive divider tap here. The output voltage can be adjusted from 0.5V to 5V. The feedback reference voltage is typically 1.22V.", 9 EP (power) "Solder to Board GND."

## LTC3447EDD
designator U?
I2C Controllable Buck Regulator, 10-pin SON (DD-10), -40 to 85 degC; Manufacturer: Linear Technology; PartNumber: LTC3447EDD; Number of Outputs: 1; PackageReference: DD-10; PackageDescription: 10-Pin Plastic DFN, Body 3 x 3 mm, Pitch 0.5 mm; Supplier 1: Digi-Key; Supplier Part Number 1: LTC3447EDD-ND; RoHS: FALSE; Code_JEDEC: MO-229
footprint LT-DD-10_V (SON, 10-Leads, Body 3x3mm, Pitch 0.5mm, Thermal Pad 2.38x1.65mm)
pins: 1 VOUT (in) "Output Voltage Sensing Pin. An internal resistor divider provides the divided down feedback reference for comparison.", 2 GND (power) "Ground for all Circuits Excluding the Internal Synchronous Power NFET.", 3 FB (in) "Feedback Sensing Pin for the Optional External Feedback Resistors. Must be tied to VIN if there are no external feedback resistors.", 4 PGOOD (oc) "Fault Report. Open drain driver sinks current when VOUT is 10% out of tolerance. Blanking during DAC changes can be enabled via the I2C.", 5 VIN (power) "Main Supply Pin. Must be closely decoupled to GND with a 2.2uF or greater capacitor.", 6 SW (power) "Switch Node Connector to Inductor. This pin connects the drains of the internal main and synchronous power MOSFET switches.", 7 RUN (in) "Run Control Input. Forcing pin above 1.5V enables the part. Forcing the pin below 0.3V shuts down the device. In shutdown, all functions are disabled drawing <1uA of supply current. Do not leave the RUN pin floating.", 8 SCL (in) "I2C Clock Input.", 9 VCCD (power) "I2C Power Rail.", 10 SDA (in) "I2C Data Input.", 11 EP (power) "Ground. Must be connected to PCB ground for electrical contact and optimized thermal performance."

## LTC3447EDD#PBF
designator U?
I2C Controllable Buck Regulator, 10-pin SON (DD-10), -40 to 85 degC, Pb-Free; Manufacturer: Linear Technology; PartNumber: LTC3447EDD#PBF; Number of Outputs: 1; PackageReference: DD-10; PackageDescription: 10-Pin Plastic DFN, Body 3 x 3 mm, Pitch 0.5 mm; Supplier 1: Digi-Key; Supplier Part Number 1: LTC3447EDD#PBF-ND; RoHS: TRUE; Code_JEDEC: MO-229
footprint LT-DD-10_V (SON, 10-Leads, Body 3x3mm, Pitch 0.5mm, Thermal Pad 2.38x1.65mm)
pins: 1 VOUT (in) "Output Voltage Sensing Pin. An internal resistor divider provides the divided down feedback reference for comparison.", 2 GND (power) "Ground for all Circuits Excluding the Internal Synchronous Power NFET.", 3 FB (in) "Feedback Sensing Pin for the Optional External Feedback Resistors. Must be tied to VIN if there are no external feedback resistors.", 4 PGOOD (oc) "Fault Report. Open drain driver sinks current when VOUT is 10% out of tolerance. Blanking during DAC changes can be enabled via the I2C.", 5 VIN (power) "Main Supply Pin. Must be closely decoupled to GND with a 2.2uF or greater capacitor.", 6 SW (power) "Switch Node Connector to Inductor. This pin connects the drains of the internal main and synchronous power MOSFET switches.", 7 RUN (in) "Run Control Input. Forcing pin above 1.5V enables the part. Forcing the pin below 0.3V shuts down the device. In shutdown, all functions are disabled drawing <1uA of supply current. Do not leave the RUN pin floating.", 8 SCL (in) "I2C Clock Input.", 9 VCCD (power) "I2C Power Rail.", 10 SDA (in) "I2C Data Input.", 11 EP (power) "Ground. Must be connected to PCB ground for electrical contact and optimized thermal performance."

## LTC3447EDD#TR
designator U?
I2C Controllable Buck Regulator, 10-pin SON (DD-10), -40 to 85 degC, Tape and Reel; Manufacturer: Linear Technology; PartNumber: LTC3447EDD#TR; Number of Outputs: 1; PackageReference: DD-10; PackageDescription: 10-Pin Plastic DFN, Body 3 x 3 mm, Pitch 0.5 mm; RoHS: FALSE; Code_JEDEC: MO-229
footprint LT-DD-10_V (SON, 10-Leads, Body 3x3mm, Pitch 0.5mm, Thermal Pad 2.38x1.65mm)
pins: 1 VOUT (in) "Output Voltage Sensing Pin. An internal resistor divider provides the divided down feedback reference for comparison.", 2 GND (power) "Ground for all Circuits Excluding the Internal Synchronous Power NFET.", 3 FB (in) "Feedback Sensing Pin for the Optional External Feedback Resistors. Must be tied to VIN if there are no external feedback resistors.", 4 PGOOD (oc) "Fault Report. Open drain driver sinks current when VOUT is 10% out of tolerance. Blanking during DAC changes can be enabled via the I2C.", 5 VIN (power) "Main Supply Pin. Must be closely decoupled to GND with a 2.2uF or greater capacitor.", 6 SW (power) "Switch Node Connector to Inductor. This pin connects the drains of the internal main and synchronous power MOSFET switches.", 7 RUN (in) "Run Control Input. Forcing pin above 1.5V enables the part. Forcing the pin below 0.3V shuts down the device. In shutdown, all functions are disabled drawing <1uA of supply current. Do not leave the RUN pin floating.", 8 SCL (in) "I2C Clock Input.", 9 VCCD (power) "I2C Power Rail.", 10 SDA (in) "I2C Data Input.", 11 EP (power) "Ground. Must be connected to PCB ground for electrical contact and optimized thermal performance."